# Altium schematic symbol library Schematic_Lib.SchLib: 8 symbols
Pins are listed as number, name and electrical type; pins without a type are passive.

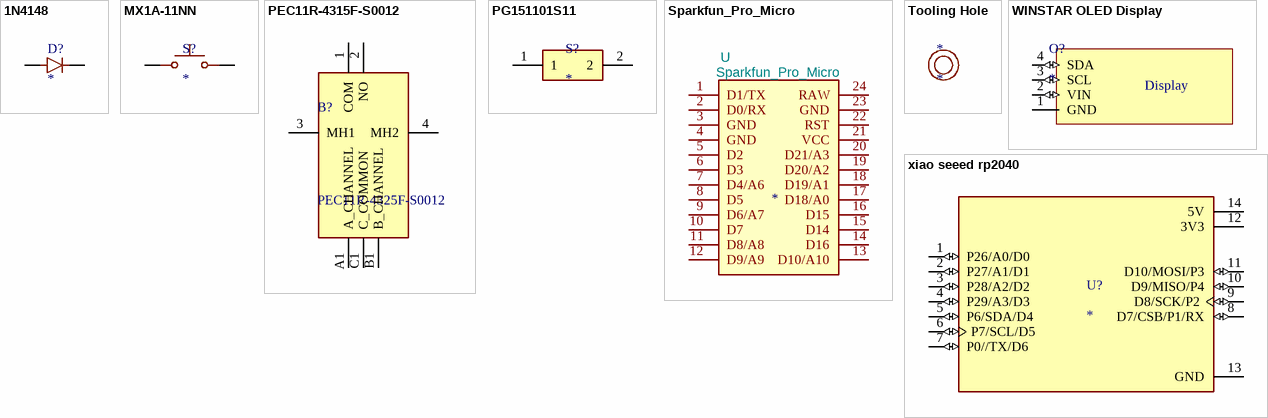
[diagram p0: symbols 1N4148 to xiao seeed rp2040]

## 1N4148
designator D?
Diode Standard 75V 200mA Surface Mount SOD-523F; MF: ON Semiconductor; MP: 1N4148; SnapEDA_Link: https://www.snapeda.com/parts/1N4148/Onsemi/view-part/?ref=snap; Package: AXIAL LEAD-2 ON Semiconductor; Value: *; Check_prices: https://www.snapeda.com/parts/1N4148/Onsemi/view-part/?ref=eda
footprint 1N4148 Diode
pins: A, K

## MX1A-11NN
designator S?
Switch,Key,SPST-NO,Keyboard,Low Profile,10mA,12VDC,Face Place Mount,Std Force | Cherry Americas MX1A-11NN; SnapEDA_Link: https://www.snapeda.com/parts/MX1A-11NN/Cherry/view-part/?ref=snap; Package: None; Value: *; MF: Cherry; MP: MX1A-11NN; Check_prices: https://www.snapeda.com/parts/MX1A-11NN/Cherry/view-part/?ref=eda
footprint SW_MX1A-11NN
pins: 1, 2

## PEC11R-4315F-S0012
designator B?, comment PEC11R-4325F-S0012
Rotary Encoder Mechanical 12 Quadrature (Incremental) Vertical; Manufacturer_Name: Bourns; Geometry.Height: 31.5mm; Manufacturer_Part_Number: PEC11R-4325F-S0012; Mouser Part Number: 652-PEC11R4325FS0012; Mouser Price/Stock: https://www.mouser.co.uk/ProductDetail/Bourns/PEC11R-4325F-S0012?qs=Zq5ylnUbLm4xKJFZnkQTMQ%3D%3D; Arrow Part Number: *; Arrow Price/Stock: *; Datasheet Link: https://www.bourns.com/docs/product-datasheets/pec11r.pdf
footprint PEC11R-4315F-S0012
pins: 1 COM, 2 NO, 3 MH1, 4 MH2, A1 A_CHANNEL, B1 B_CHANNEL, C1 C_COMMON

## PG151101S11
designator S?
MF: Kailh; MP: PG151101S11; SnapEDA_Link: https://www.snapeda.com/parts/PG151101S11/Kailh/view-part/?ref=snap; Package: Package; Value: *; Check_prices: https://www.snapeda.com/parts/PG151101S11/Kailh/view-part/?ref=eda
footprint SW_PG151101S11
pins: 1, 2

## Sparkfun_Pro_Micro
designator U  value Sparkfun_Pro_Micro
Footprint: Arduino:Sparkfun_Pro_Micro
footprint Sparkfun_Pro_Micro
pins: 1 D1/TX, 2 D0/RX, 3 GND, 4 GND, 5 D2, 6 D3, 7 D4/A6, 8 D5, 9 D6/A7, 10 D7, 11 D8/A8, 12 D9/A9, 13 D10/A10, 14 D16, 15 D14, 16 D15, 17 D18/A0, 18 D19/A1, 19 D20/A2, 20 D21/A3, 21 VCC, 22 RST, 23 GND, 24 RAW

## Tooling Hole
designator *
footprint Tooling Hole

## WINSTAR OLED Display
designator O?
WEA012832FWPP3N00000; ComponentLink1Description: New link; ComponentLink1URL: https://www.soselectronic.com/pl-pl/products/winstar/wea012832fwpp3n00000-401631
footprint WINSTAR OLED Display (WEA012832FWPP3N00000)
pins: 1 GND, 2 VIN (io), 3 SCL (io), 4 SDA (io)
text: Display

## xiao seeed rp2040
designator U?
RP2040 XIAO RP2040 series ARMÂ® CortexÂ®-M0+ MCU 32-Bit Embedded Evaluation Board; MF: Seeed Technology Co., Ltd; MP: 102010428; SnapEDA_Link: https://www.snapeda.com/parts/102010428/Seeed+Technology+Co.%252C+Ltd/view-part/?ref=snap; Package: None; Value: *; Check_prices: https://www.snapeda.com/parts/102010428/Seeed+Technology+Co.%252C+Ltd/view-part/?ref=eda
footprint MODULE_102010428
pins: 1 P26/A0/D0 (io), 2 P27/A1/D1 (io), 3 P28/A2/D2 (io), 4 P29/A3/D3 (io), 5 P6/SDA/D4 (io), 6 P7/SCL/D5 (io), 7 P0//TX/D6 (io), 8 D7/CSB/P1/RX (io), 9 D8/SCK/P2 (io), 10 D9/MISO/P4 (io), 11 D10/MOSI/P3 (io), 12 3V3 (power), 13 GND (power), 14 5V (power)